# Altium schematic symbol library ECS-TXO53-S3-33-250-BN-TR.SchLib: 2 symbols
Pins are listed as number, name and electrical type; pins without a type are passive.

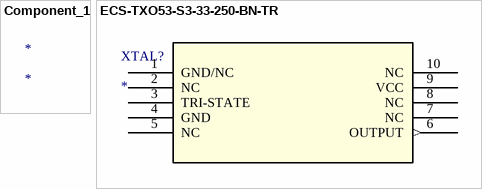
[diagram p0: symbols Component_1 to ECS-TXO53-S3-33-250-BN-TR]

## Component_1
designator *

## ECS-TXO53-S3-33-250-BN-TR
designator XTAL?
No Description Available; Mfr_Name: ECS International; Type: Oscillators; RefDes: RefDes
footprint SO10_ECS-TXO_ECS
pins: 1 GND/NC, 2 NC, 3 TRI-STATE (hiz), 4 GND (power), 5 NC, 6 OUTPUT (out), 7 NC, 8 NC, 9 VCC (power), 10 NC